# Altium footprint library 8-SOIC_EP.PcbLib: 1 footprints
Each footprint in its own frame and in the unit in brackets; x right, y up, seen from the top. Pads: shape width x height; smd on the part's side, far side on the other; paste and mask are expansions set on the pad; w line width, h text height; cw(c..) or ccw(c..) is an arc to the next point about the centre after c.
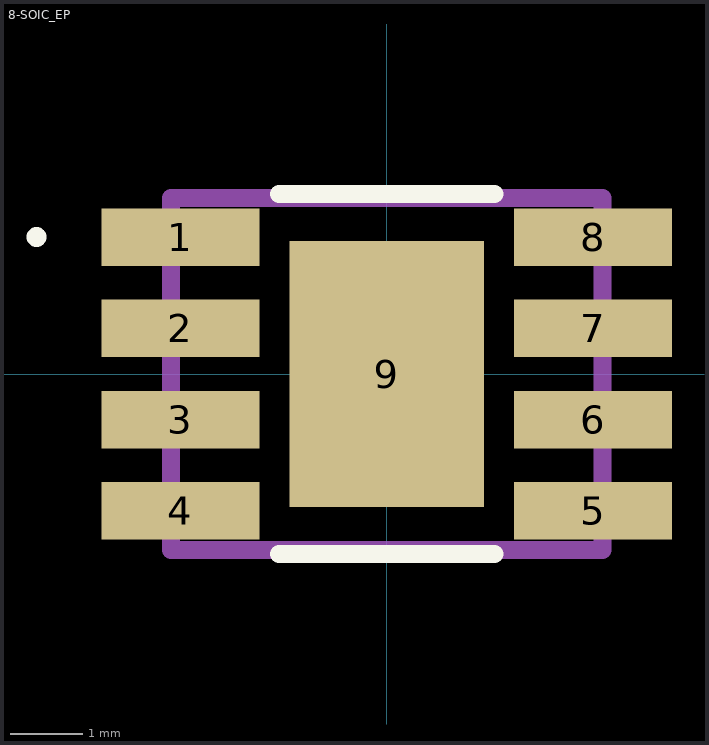
[diagram p0: the footprint, top view; thin cyan lines are the x and y axes]

## 8-SOIC_EP [mm]
pads (9):
  rect 2.2x0.8 smd mask+0.051: 1(-2.87,1.905) 2(-2.87,0.635) 3(-2.87,-0.635) 4(-2.87,-1.905) 5(2.87,-1.905) 6(2.87,-0.635) 7(2.87,0.635) 8(2.87,1.905)
  rect 2.71x3.7 smd mask+0.051: 9(0,0)
Top Overlay:
  circle w0.254: c-4.87,1.905 r0.01
  lines w0.25: -1.5,-2.5 1.5,-2.5 ; -1.5,2.5 -0.875,2.5 0.875,2.5 1.5,2.5
Mechanical 13:
  lines w0.25: -3,-2.45 -3,2.45 3,2.45 3,-2.45 -3,-2.45
Mechanical 15:
  lines w0.25: -0.5,0 0,0 ; 0,-0.5 0,0 ; 0,0.5 0,0 ; 0.5,0 0,0
3D body "8-SOIC.STEP": height 1.75, standoff 0, extent -3,-2.45 3,2.45